# Altium integrated library Maxim Digital Potentiometers.IntLib: 1045 symbols (part 29 of 42)
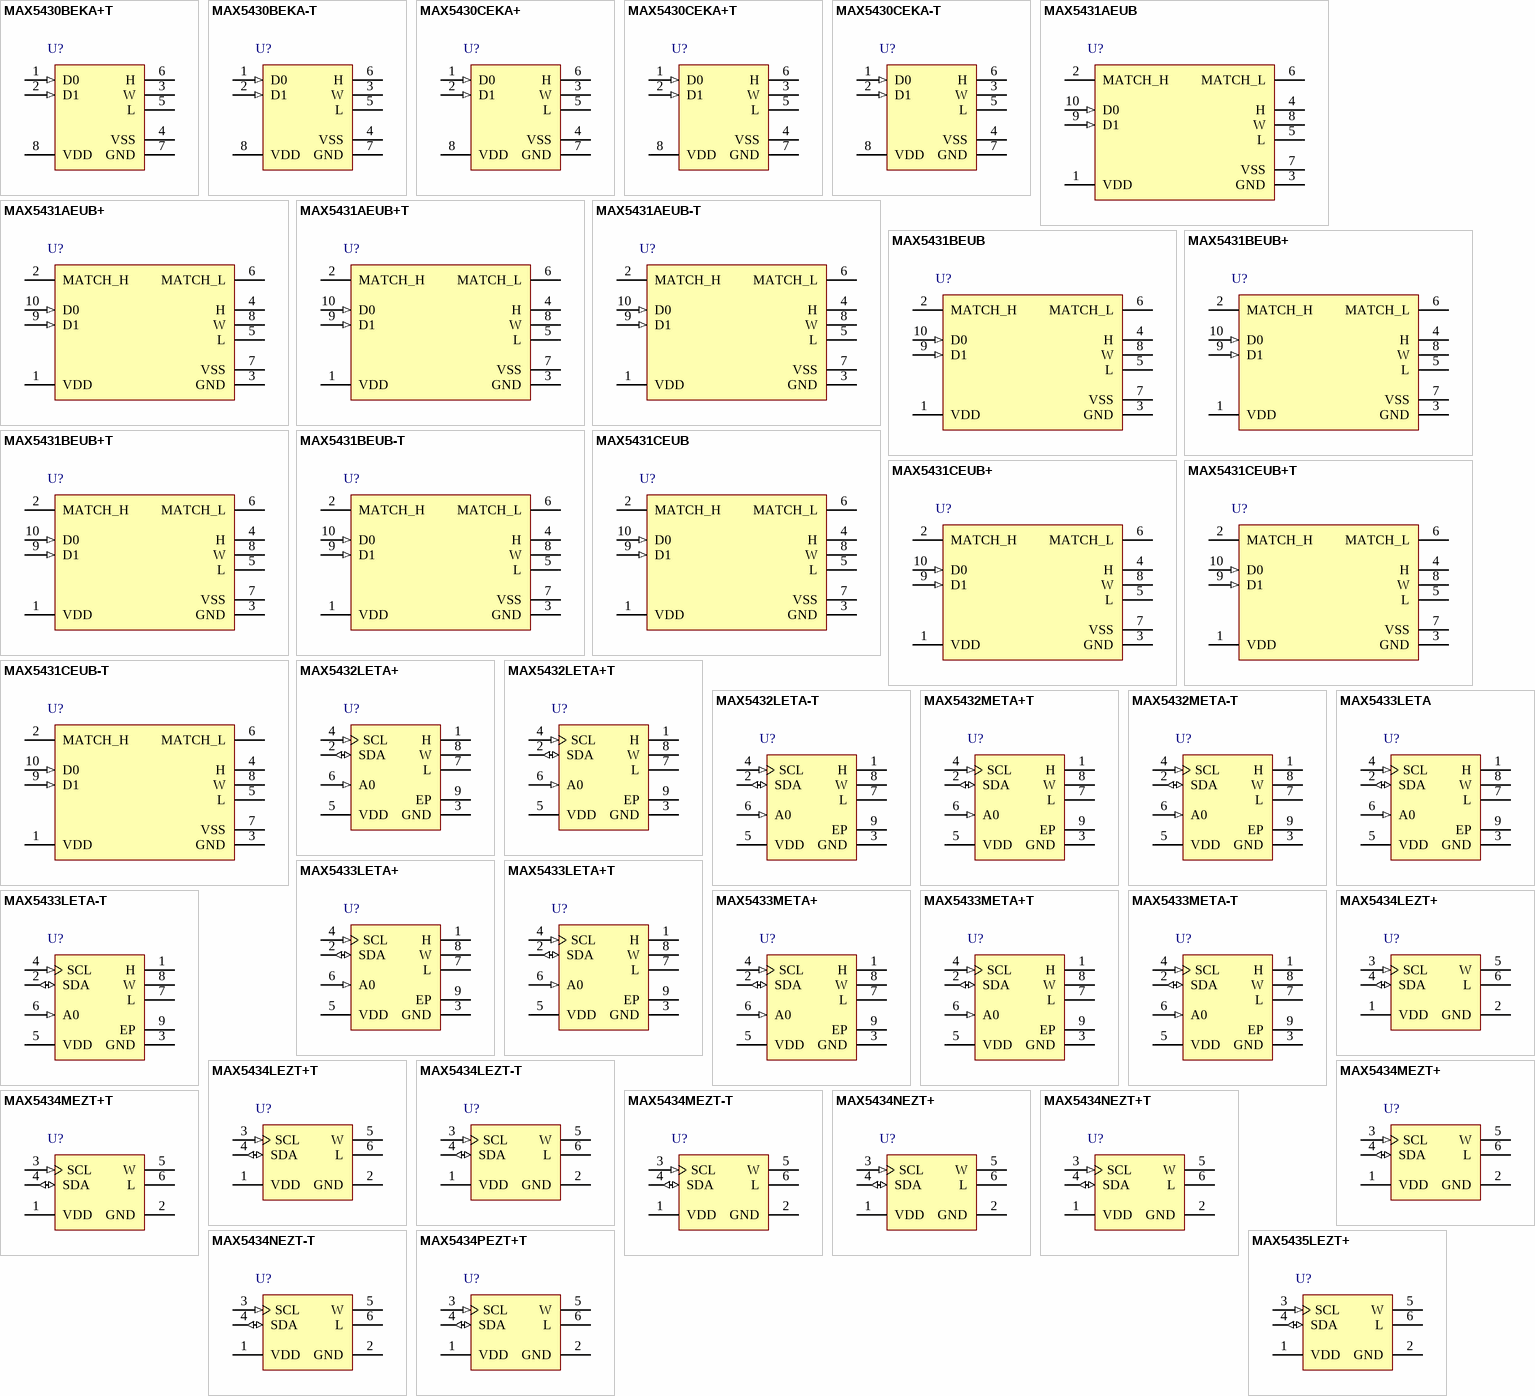
[diagram p57: symbols MAX5430BEKA+T to MAX5435LEZT+]

## MAX5435LEZT+
designator U?
I2C, Digital Potentiometers, 100kohm Variable Resistor with 2-Wire Serial Control Interface, Non-Volatile, Linear Taper, 32 Steps, -40 to 85 degC, 6-pin TSOT (Z6+1), Pb-Free; PartNumber: MAX5435LEZT+; DatasheetVersion: Rev. 3; PackageVersion: Rev. D, 05/2011; PackageReference: Z6+1; PackageDescription: 6-Pin Thin Small-Outline Transistor (Z6+1), Body 2.9 x 1.6 mm, Pitch 0.95 mm; Supplier 1: Mouser; Supplier Part Number 1: N/A; Control Interface: 2-Wire Serial; Features: EEPROM Wiper Memory; Mounting Technology: Surface Mount; Code_JEDEC: MO-193; ComponentLink1Description: Manufacturer URL; ComponentLink1URL: http://www.maximintegrated.com/; ComponentLink2Description: Datasheet; ComponentLink2URL: http://datasheets.maximintegrated.com/en/ds/MAX5432-MAX5435.pdf; ComponentLink3Description: Package Specification; ComponentLink3URL: http://pdfserv.maximintegrated.com/package_dwgs/21-0114.PDF
footprint MAXM-Z6+1_N (SOT23, 6-Leads, Body 2.9x1.6mm, Pitch 0.95mm, IPC Medium Density)
footprint MAXM-Z6+1_L (SOT23, 6-Leads, Body 2.9x1.6mm, Pitch 0.95mm, IPC High Density)
footprint MAXM-Z6+1_M (SOT23, 6-Leads, Body 2.9x1.6mm, Pitch 0.95mm, IPC Low Density)
pins: 1 VDD (power) "Power-Supply Input. Bypass with a 0.1uF capacitor from VDD to GND", 2 GND (power) "Ground", 3 SCL (in) "I2C-Compatible Interface Clock Input", 4 SDA (io) "I2C-Compatible Interface Data Input", 5 W "Wiper Terminal", 6 L "Low Terminal"

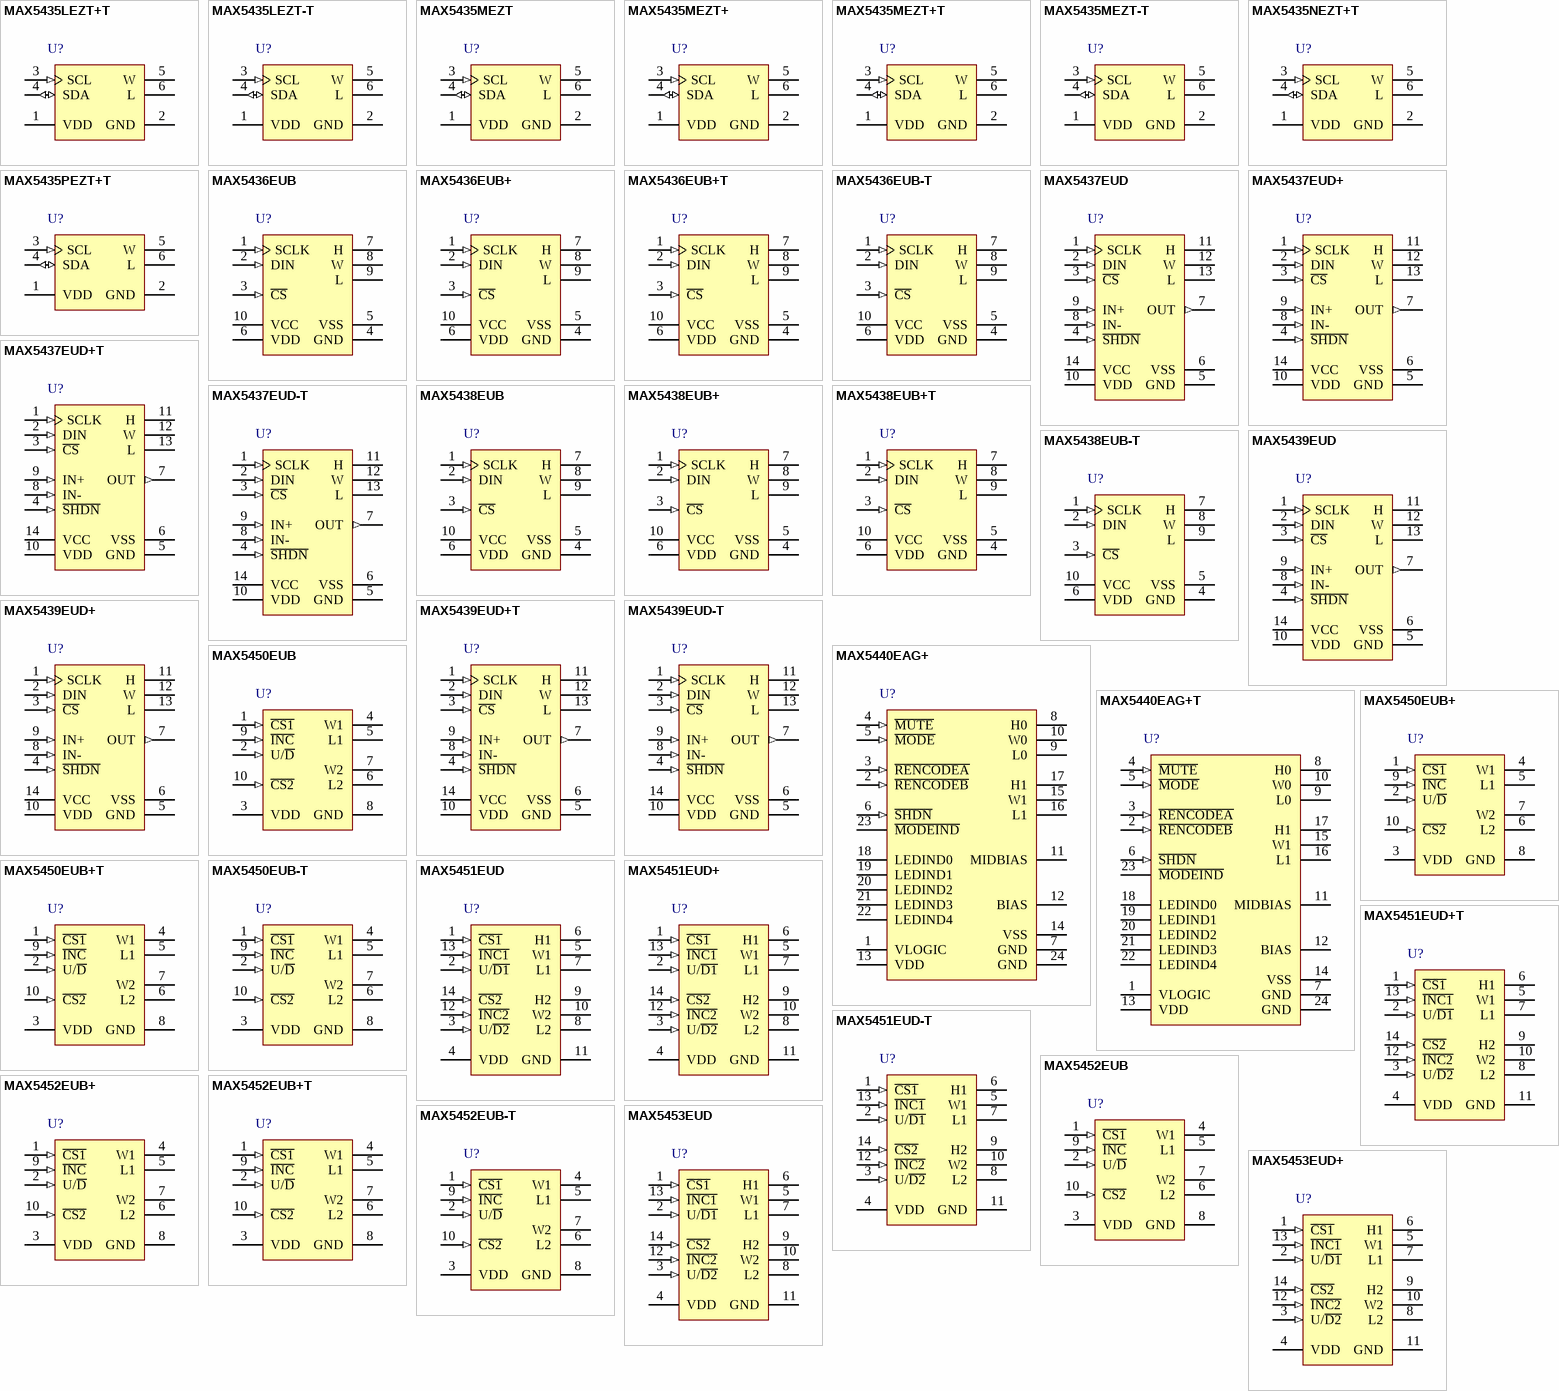
[diagram p20: symbols MAX5435LEZT+T to MAX5453EUD+]

## MAX5435LEZT+T
designator U?
I2C, Digital Potentiometers, 100kohm Variable Resistor with 2-Wire Serial Control Interface, Non-Volatile, Linear Taper, 32 Steps, -40 to 85 degC, 6-pin TSOT (Z6+1), Pb-Free, Tape and Reel; PartNumber: MAX5435LEZT+T; DatasheetVersion: Rev. 3; PackageVersion: Rev. D, 05/2011; PackageReference: Z6+1; PackageDescription: 6-Pin Thin Small-Outline Transistor (Z6+1), Body 2.9 x 1.6 mm, Pitch 0.95 mm; Supplier 1: Digi-Key; Supplier Part Number 1: MAX5435LEZT+T-ND; Supplier 2: Mouser; Supplier Part Number 2: 700-MAX5435LEZTT; Control Interface: 2-Wire Serial; Features: EEPROM Wiper Memory; Mounting Technology: Surface Mount; Code_JEDEC: MO-193; ComponentLink1Description: Manufacturer URL; ComponentLink1URL: http://www.maximintegrated.com/; ComponentLink2Description: Datasheet; ComponentLink2URL: http://datasheets.maximintegrated.com/en/ds/MAX5432-MAX5435.pdf; ComponentLink3Description: Package Specification; ComponentLink3URL: http://pdfserv.maximintegrated.com/package_dwgs/21-0114.PDF
footprint MAXM-Z6+1_N (SOT23, 6-Leads, Body 2.9x1.6mm, Pitch 0.95mm, IPC Medium Density)
footprint MAXM-Z6+1_L (SOT23, 6-Leads, Body 2.9x1.6mm, Pitch 0.95mm, IPC High Density)
footprint MAXM-Z6+1_M (SOT23, 6-Leads, Body 2.9x1.6mm, Pitch 0.95mm, IPC Low Density)
pins: 1 VDD (power) "Power-Supply Input. Bypass with a 0.1uF capacitor from VDD to GND", 2 GND (power) "Ground", 3 SCL (in) "I2C-Compatible Interface Clock Input", 4 SDA (io) "I2C-Compatible Interface Data Input", 5 W "Wiper Terminal", 6 L "Low Terminal"

## MAX5435LEZT-T
designator U?
I2C, Digital Potentiometers, 100kohm Variable Resistor with 2-Wire Serial Control Interface, Non-Volatile, Linear Taper, 32 Steps, -40 to 85 degC, 6-pin TSOT (Z6-1), Tape and Reel; PartNumber: MAX5435LEZT-T; DatasheetVersion: Rev. 3; PackageVersion: Rev. D, 05/2011; PackageReference: Z6-1; PackageDescription: 6-Pin Thin Small-Outline Transistor (Z6-1), Body 2.9 x 1.6 mm, Pitch 0.95 mm; Supplier 1: Mouser; Supplier Part Number 1: N/A; Control Interface: 2-Wire Serial; Features: EEPROM Wiper Memory; Mounting Technology: Surface Mount; Code_JEDEC: MO-193; ComponentLink1Description: Manufacturer URL; ComponentLink1URL: http://www.maximintegrated.com/; ComponentLink2Description: Datasheet; ComponentLink2URL: http://datasheets.maximintegrated.com/en/ds/MAX5432-MAX5435.pdf; ComponentLink3Description: Package Specification; ComponentLink3URL: http://pdfserv.maximintegrated.com/package_dwgs/21-0114.PDF
footprint MAXM-Z6-1_N (SOT23, 6-Leads, Body 2.9x1.6mm, Pitch 0.95mm, IPC Medium Density)
footprint MAXM-Z6-1_L (SOT23, 6-Leads, Body 2.9x1.6mm, Pitch 0.95mm, IPC High Density)
footprint MAXM-Z6-1_M (SOT23, 6-Leads, Body 2.9x1.6mm, Pitch 0.95mm, IPC Low Density)
pins: 1 VDD (power) "Power-Supply Input. Bypass with a 0.1uF capacitor from VDD to GND", 2 GND (power) "Ground", 3 SCL (in) "I2C-Compatible Interface Clock Input", 4 SDA (io) "I2C-Compatible Interface Data Input", 5 W "Wiper Terminal", 6 L "Low Terminal"

## MAX5435MEZT
designator U?
Digital Potentiometers, 100k ohm Variable Resistor with 2-Wire Serial Control Interface, Non-Volatile, Linear Taper, 32 Steps, -40 to 85 degC, 6-pin TSOT (Z6-1); PartNumber: MAX5435MEZT; DatasheetVersion: Rev. 3; PackageVersion: Rev. D, 05/2011; PackageReference: Z6-1; PackageDescription: 6-Pin Thin Small-Outline Transistor (Z6-1), Body 2.9 x 1.6 mm, Pitch 0.95 mm; Supplier 1: Mouser; Supplier Part Number 1: N/A; Control Interface: 2-Wire Serial; Features: EEPROM Wiper Memory; Mounting Technology: Surface Mount; Code_JEDEC: MO-193; ComponentLink1Description: Manufacturer URL; ComponentLink1URL: http://www.maximintegrated.com/; ComponentLink2Description: Datasheet; ComponentLink2URL: http://datasheets.maximintegrated.com/en/ds/MAX5432-MAX5435.pdf; ComponentLink3Description: Package Specification; ComponentLink3URL: http://pdfserv.maximintegrated.com/package_dwgs/21-0114.PDF
footprint MAXM-Z6-1_N (SOT23, 6-Leads, Body 2.9x1.6mm, Pitch 0.95mm, IPC Medium Density)
footprint MAXM-Z6-1_L (SOT23, 6-Leads, Body 2.9x1.6mm, Pitch 0.95mm, IPC High Density)
footprint MAXM-Z6-1_M (SOT23, 6-Leads, Body 2.9x1.6mm, Pitch 0.95mm, IPC Low Density)
pins: 1 VDD (power) "Power-Supply Input. Bypass with a 0.1uF capacitor from VDD to GND", 2 GND (power) "Ground", 3 SCL (in) "I2C-Compatible Interface Clock Input", 4 SDA (io) "I2C-Compatible Interface Data Input", 5 W "Wiper Terminal", 6 L "Low Terminal"

## MAX5435MEZT+
designator U?
Digital Potentiometers, 100k ohm Variable Resistor with 2-Wire Serial Control Interface, Non-Volatile, Linear Taper, 32 Steps, -40 to 85 degC, 6-pin TSOT (Z6+1), Pb-Free; PartNumber: MAX5435MEZT+; DatasheetVersion: Rev. 3; PackageVersion: Rev. D, 05/2011; PackageReference: Z6+1; PackageDescription: 6-Pin Thin Small-Outline Transistor (Z6+1), Body 2.9 x 1.6 mm, Pitch 0.95 mm; Supplier 1: Mouser; Supplier Part Number 1: N/A; Control Interface: 2-Wire Serial; Features: EEPROM Wiper Memory; Mounting Technology: Surface Mount; Code_JEDEC: MO-193; ComponentLink1Description: Manufacturer URL; ComponentLink1URL: http://www.maximintegrated.com/; ComponentLink2Description: Datasheet; ComponentLink2URL: http://datasheets.maximintegrated.com/en/ds/MAX5432-MAX5435.pdf; ComponentLink3Description: Package Specification; ComponentLink3URL: http://pdfserv.maximintegrated.com/package_dwgs/21-0114.PDF
footprint MAXM-Z6+1_N (SOT23, 6-Leads, Body 2.9x1.6mm, Pitch 0.95mm, IPC Medium Density)
footprint MAXM-Z6+1_L (SOT23, 6-Leads, Body 2.9x1.6mm, Pitch 0.95mm, IPC High Density)
footprint MAXM-Z6+1_M (SOT23, 6-Leads, Body 2.9x1.6mm, Pitch 0.95mm, IPC Low Density)
pins: 1 VDD (power) "Power-Supply Input. Bypass with a 0.1uF capacitor from VDD to GND", 2 GND (power) "Ground", 3 SCL (in) "I2C-Compatible Interface Clock Input", 4 SDA (io) "I2C-Compatible Interface Data Input", 5 W "Wiper Terminal", 6 L "Low Terminal"

## MAX5435MEZT+T
designator U?
Digital Potentiometers, 100k ohm Variable Resistor with 2-Wire Serial Control Interface, Non-Volatile, Linear Taper, 32 Steps, -40 to 85 degC, 6-pin TSOT (Z6+1), Pb-Free, Tape and Reel; PartNumber: MAX5435MEZT+T; DatasheetVersion: Rev. 3; PackageVersion: Rev. D, 05/2011; PackageReference: Z6+1; PackageDescription: 6-Pin Thin Small-Outline Transistor (Z6+1), Body 2.9 x 1.6 mm, Pitch 0.95 mm; Supplier 1: Digi-Key; Supplier Part Number 1: MAX5435MEZT+TTR-ND; Supplier 2: Digi-Key; Supplier Part Number 2: MAX5435MEZT+TCT-ND; Supplier 3: Digi-Key; Supplier Part Number 3: MAX5435MEZT+TDKR-ND; Supplier 4: Mouser; Supplier Part Number 4: 700-MAX5435MEZTT; Control Interface: 2-Wire Serial; Features: EEPROM Wiper Memory; Mounting Technology: Surface Mount; Code_JEDEC: MO-193; ComponentLink1Description: Manufacturer URL; ComponentLink1URL: http://www.maximintegrated.com/; ComponentLink2Description: Datasheet; ComponentLink2URL: http://datasheets.maximintegrated.com/en/ds/MAX5432-MAX5435.pdf; ComponentLink3Description: Package Specification; ComponentLink3URL: http://pdfserv.maximintegrated.com/package_dwgs/21-0114.PDF
footprint MAXM-Z6+1_N (SOT23, 6-Leads, Body 2.9x1.6mm, Pitch 0.95mm, IPC Medium Density)
footprint MAXM-Z6+1_L (SOT23, 6-Leads, Body 2.9x1.6mm, Pitch 0.95mm, IPC High Density)
footprint MAXM-Z6+1_M (SOT23, 6-Leads, Body 2.9x1.6mm, Pitch 0.95mm, IPC Low Density)
pins: 1 VDD (power) "Power-Supply Input. Bypass with a 0.1uF capacitor from VDD to GND", 2 GND (power) "Ground", 3 SCL (in) "I2C-Compatible Interface Clock Input", 4 SDA (io) "I2C-Compatible Interface Data Input", 5 W "Wiper Terminal", 6 L "Low Terminal"

## MAX5435MEZT-T
designator U?
Digital Potentiometers, 100k ohm Variable Resistor with 2-Wire Serial Control Interface, Non-Volatile, Linear Taper, 32 Steps, -40 to 85 degC, 6-pin TSOT (Z6-1), Tape and Reel; PartNumber: MAX5435MEZT-T; DatasheetVersion: Rev. 3; PackageVersion: Rev. D, 05/2011; PackageReference: Z6-1; PackageDescription: 6-Pin Thin Small-Outline Transistor (Z6-1), Body 2.9 x 1.6 mm, Pitch 0.95 mm; Supplier 1: Mouser; Supplier Part Number 1: N/A; Control Interface: 2-Wire Serial; Features: EEPROM Wiper Memory; Mounting Technology: Surface Mount; Code_JEDEC: MO-193; ComponentLink1Description: Manufacturer URL; ComponentLink1URL: http://www.maximintegrated.com/; ComponentLink2Description: Datasheet; ComponentLink2URL: http://datasheets.maximintegrated.com/en/ds/MAX5432-MAX5435.pdf; ComponentLink3Description: Package Specification; ComponentLink3URL: http://pdfserv.maximintegrated.com/package_dwgs/21-0114.PDF
footprint MAXM-Z6-1_N (SOT23, 6-Leads, Body 2.9x1.6mm, Pitch 0.95mm, IPC Medium Density)
footprint MAXM-Z6-1_L (SOT23, 6-Leads, Body 2.9x1.6mm, Pitch 0.95mm, IPC High Density)
footprint MAXM-Z6-1_M (SOT23, 6-Leads, Body 2.9x1.6mm, Pitch 0.95mm, IPC Low Density)
pins: 1 VDD (power) "Power-Supply Input. Bypass with a 0.1uF capacitor from VDD to GND", 2 GND (power) "Ground", 3 SCL (in) "I2C-Compatible Interface Clock Input", 4 SDA (io) "I2C-Compatible Interface Data Input", 5 W "Wiper Terminal", 6 L "Low Terminal"

## MAX5435NEZT+T
designator U?
Digital Potentiometers, 100k ohm Variable Resistor with 2-Wire Serial Control Interface, Non-Volatile, Linear Taper, 32 Steps, -40 to 85 degC, 6-pin TSOT (Z6+1), Pb-Free, Tape and Reel; PartNumber: MAX5435NEZT+T; DatasheetVersion: Rev. 3; PackageVersion: Rev. D, 05/2011; PackageReference: Z6+1; PackageDescription: 6-Pin Thin Small-Outline Transistor (Z6+1), Body 2.9 x 1.6 mm, Pitch 0.95 mm; Supplier 1: Digi-Key; Supplier Part Number 1: MAX5435NEZT+T-ND; Supplier 2: Mouser; Supplier Part Number 2: 700-MAX5435NEZT+T; Control Interface: 2-Wire Serial; Features: EEPROM Wiper Memory; Mounting Technology: Surface Mount; Code_JEDEC: MO-193; ComponentLink1Description: Manufacturer URL; ComponentLink1URL: http://www.maximintegrated.com/; ComponentLink2Description: Datasheet; ComponentLink2URL: http://datasheets.maximintegrated.com/en/ds/MAX5432-MAX5435.pdf; ComponentLink3Description: Package Specification; ComponentLink3URL: http://pdfserv.maximintegrated.com/package_dwgs/21-0114.PDF
footprint MAXM-Z6+1_N (SOT23, 6-Leads, Body 2.9x1.6mm, Pitch 0.95mm, IPC Medium Density)
footprint MAXM-Z6+1_L (SOT23, 6-Leads, Body 2.9x1.6mm, Pitch 0.95mm, IPC High Density)
footprint MAXM-Z6+1_M (SOT23, 6-Leads, Body 2.9x1.6mm, Pitch 0.95mm, IPC Low Density)
pins: 1 VDD (power) "Power-Supply Input. Bypass with a 0.1uF capacitor from VDD to GND", 2 GND (power) "Ground", 3 SCL (in) "I2C-Compatible Interface Clock Input", 4 SDA (io) "I2C-Compatible Interface Data Input", 5 W "Wiper Terminal", 6 L "Low Terminal"

## MAX5435PEZT+T
designator U?
Digital Potentiometers, 100 kohm Variable Resistor with 2-Wire Serial Control Interface, Non-Volatile, Linear Taper, 32 Steps, -40 to 85 degC, 6-pin TSOT (Z6+1), Pb-Free, Tape and Reel; PartNumber: MAX5435PEZT+T; DatasheetVersion: Rev. 3; PackageVersion: Rev. D, 05/2011; PackageReference: Z6+1; PackageDescription: 6-Pin Thin Small-Outline Transistor (Z6+1), Body 2.9 x 1.6 mm, Pitch 0.95 mm; Supplier 1: Digi-Key; Supplier Part Number 1: MAX5435PEZT+T-ND; Supplier 2: Mouser; Supplier Part Number 2: 700-MAX5435PEZT+T; Control Interface: 2-Wire Serial; Features: EEPROM Wiper Memory; Mounting Technology: Surface Mount; Code_JEDEC: MO-193; ComponentLink1Description: Manufacturer URL; ComponentLink1URL: http://www.maximintegrated.com/; ComponentLink2Description: Datasheet; ComponentLink2URL: http://datasheets.maximintegrated.com/en/ds/MAX5432-MAX5435.pdf; ComponentLink3Description: Package Specification; ComponentLink3URL: http://pdfserv.maximintegrated.com/package_dwgs/21-0114.PDF
footprint MAXM-Z6+1_N (SOT23, 6-Leads, Body 2.9x1.6mm, Pitch 0.95mm, IPC Medium Density)
footprint MAXM-Z6+1_L (SOT23, 6-Leads, Body 2.9x1.6mm, Pitch 0.95mm, IPC High Density)
footprint MAXM-Z6+1_M (SOT23, 6-Leads, Body 2.9x1.6mm, Pitch 0.95mm, IPC Low Density)
pins: 1 VDD (power) "Power-Supply Input. Bypass with a 0.1uF capacitor from VDD to GND", 2 GND (power) "Ground", 3 SCL (in) "I2C-Compatible Interface Clock Input", 4 SDA (io) "I2C-Compatible Interface Data Input", 5 W "Wiper Terminal", 6 L "Low Terminal"

## MAX5436EUB
designator U?
High Voltage +/-15V, Low-Drift Digital Potentiometers with 3-Wire Serial SPI Control Interface, Volatile, Linear Taper, 128 Steps, -40 to 85 degC, 10-pin uMAX (U10CN-1); PartNumber: MAX5436EUB; DatasheetVersion: Rev. 3; PackageVersion: Rev. L, 07/2008; PackageReference: U10CN-1; PackageDescription: 10-Pin Micro-MAX, Thin Shrink Small-Outline (U10CN-1), Body 3 x 3 mm, Pitch 0.5 mm; Supplier 1: Mouser; Supplier Part Number 1: N/A; Control Interface: 3-Wire Serial SPI; Mounting Technology: Surface Mount; Code_JEDEC: MO-187; ComponentLink1Description: Manufacturer URL; ComponentLink1URL: http://www.maximintegrated.com/; ComponentLink2Description: Datasheet; ComponentLink2URL: http://datasheets.maximintegrated.com/en/ds/MAX5436-MAX5439.pdf; ComponentLink3Description: Package Specification; ComponentLink3URL: http://pdfserv.maximintegrated.com/package_dwgs/21-0061.PDF
footprint MAXM-U10CN-1_N (SOP, 10-Leads, Body 3x3mm, Pitch 0.5mm, IPC Medium Density)
footprint MAXM-U10CN-1_L (SOP, 10-Leads, Body 3x3mm, Pitch 0.5mm, IPC High Density)
footprint MAXM-U10CN-1_M (SOP, 10-Leads, Body 3x3mm, Pitch 0.5mm, IPC Low Density)
pins: 1 SCLK (in) "Serial Clock Input", 2 DIN (in) "Serial Data Input", 3 ~{CS} (in) "Chip Select", 4 GND (power) "Analog and Digital Ground", 5 VSS (power) "Negative Analog Supply. Bypass with a 0.1uF capacitor to GND.", 6 VDD (power) "Positive Analog Supply. Bypass with a 0.1uF capacitor to GND.", 7 H "High Terminal of Resistor", 8 W "Wiper Terminal of Resistor", 9 L "Low Terminal of Resistor", 10 VCC (power) "Digital Supply. Bypass with a 0.1uF capacitor to GND."

## MAX5436EUB+
designator U?
High Voltage +/-15V, Low-Drift Digital Potentiometers with 3-Wire Serial SPI Control Interface, Volatile, Linear Taper, 128 Steps, -40 to 85 degC, 10-pin uMAX (U10CN+1), Pb-Free; PartNumber: MAX5436EUB+; DatasheetVersion: Rev. 3; PackageVersion: Rev. L, 07/2008; PackageReference: U10CN+1; PackageDescription: 10-Pin Micro-MAX, Thin Shrink Small-Outline (U10CN+1), Body 3 x 3 mm, Pitch 0.5 mm; Supplier 1: Digi-Key; Supplier Part Number 1: MAX5436EUB+-ND; Supplier 2: Farnell; Supplier Part Number 2: 2008637; Supplier 3: Newark; Supplier Part Number 3: 33K2128; Supplier 4: Mouser; Supplier Part Number 4: 700-MAX5436EUB; Control Interface: 3-Wire Serial SPI; Mounting Technology: Surface Mount; Code_JEDEC: MO-187; ComponentLink1Description: Manufacturer URL; ComponentLink1URL: http://www.maximintegrated.com/; ComponentLink2Description: Datasheet; ComponentLink2URL: http://datasheets.maximintegrated.com/en/ds/MAX5436-MAX5439.pdf; ComponentLink3Description: Package Specification; ComponentLink3URL: http://pdfserv.maximintegrated.com/package_dwgs/21-0061.PDF
footprint MAXM-U10CN+1_N (SOP, 10-Leads, Body 3x3mm, Pitch 0.5mm, IPC Medium Density)
footprint MAXM-U10CN+1_L (SOP, 10-Leads, Body 3x3mm, Pitch 0.5mm, IPC High Density)
footprint MAXM-U10CN+1_M (SOP, 10-Leads, Body 3x3mm, Pitch 0.5mm, IPC Low Density)
pins: 1 SCLK (in) "Serial Clock Input", 2 DIN (in) "Serial Data Input", 3 ~{CS} (in) "Chip Select", 4 GND (power) "Analog and Digital Ground", 5 VSS (power) "Negative Analog Supply. Bypass with a 0.1uF capacitor to GND.", 6 VDD (power) "Positive Analog Supply. Bypass with a 0.1uF capacitor to GND.", 7 H "High Terminal of Resistor", 8 W "Wiper Terminal of Resistor", 9 L "Low Terminal of Resistor", 10 VCC (power) "Digital Supply. Bypass with a 0.1uF capacitor to GND."

## MAX5436EUB+T
designator U?
High Voltage +/-15V, Low-Drift Digital Potentiometers with 3-Wire Serial SPI Control Interface, Volatile, Linear Taper, 128 Steps, -40 to 85 degC, 10-pin uMAX (U10CN+1), Pb-Free, Tape and Reel; PartNumber: MAX5436EUB+T; DatasheetVersion: Rev. 3; PackageVersion: Rev. L, 07/2008; PackageReference: U10CN+1; PackageDescription: 10-Pin Micro-MAX, Thin Shrink Small-Outline (U10CN+1), Body 3 x 3 mm, Pitch 0.5 mm; Supplier 1: Digi-Key; Supplier Part Number 1: MAX5436EUB+T-ND; Supplier 2: Mouser; Supplier Part Number 2: 700-MAX5436EUBT; Control Interface: 3-Wire Serial SPI; Mounting Technology: Surface Mount; Code_JEDEC: MO-187; ComponentLink1Description: Manufacturer URL; ComponentLink1URL: http://www.maximintegrated.com/; ComponentLink2Description: Datasheet; ComponentLink2URL: http://datasheets.maximintegrated.com/en/ds/MAX5436-MAX5439.pdf; ComponentLink3Description: Package Specification; ComponentLink3URL: http://pdfserv.maximintegrated.com/package_dwgs/21-0061.PDF
footprint MAXM-U10CN+1_N (SOP, 10-Leads, Body 3x3mm, Pitch 0.5mm, IPC Medium Density)
footprint MAXM-U10CN+1_L (SOP, 10-Leads, Body 3x3mm, Pitch 0.5mm, IPC High Density)
footprint MAXM-U10CN+1_M (SOP, 10-Leads, Body 3x3mm, Pitch 0.5mm, IPC Low Density)
pins: 1 SCLK (in) "Serial Clock Input", 2 DIN (in) "Serial Data Input", 3 ~{CS} (in) "Chip Select", 4 GND (power) "Analog and Digital Ground", 5 VSS (power) "Negative Analog Supply. Bypass with a 0.1uF capacitor to GND.", 6 VDD (power) "Positive Analog Supply. Bypass with a 0.1uF capacitor to GND.", 7 H "High Terminal of Resistor", 8 W "Wiper Terminal of Resistor", 9 L "Low Terminal of Resistor", 10 VCC (power) "Digital Supply. Bypass with a 0.1uF capacitor to GND."

## MAX5436EUB-T
designator U?
High Voltage +/-15V, Low-Drift Digital Potentiometers with 3-Wire Serial SPI Control Interface, Volatile, Linear Taper, 128 Steps, -40 to 85 degC, 10-pin uMAX (U10CN-1), Tape and Reel; PartNumber: MAX5436EUB-T; DatasheetVersion: Rev. 3; PackageVersion: Rev. L, 07/2008; PackageReference: U10CN-1; PackageDescription: 10-Pin Micro-MAX, Thin Shrink Small-Outline (U10CN-1), Body 3 x 3 mm, Pitch 0.5 mm; Supplier 1: Mouser; Supplier Part Number 1: N/A; Control Interface: 3-Wire Serial SPI; Mounting Technology: Surface Mount; Code_JEDEC: MO-187; ComponentLink1Description: Manufacturer URL; ComponentLink1URL: http://www.maximintegrated.com/; ComponentLink2Description: Datasheet; ComponentLink2URL: http://datasheets.maximintegrated.com/en/ds/MAX5436-MAX5439.pdf; ComponentLink3Description: Package Specification; ComponentLink3URL: http://pdfserv.maximintegrated.com/package_dwgs/21-0061.PDF
footprint MAXM-U10CN-1_N (SOP, 10-Leads, Body 3x3mm, Pitch 0.5mm, IPC Medium Density)
footprint MAXM-U10CN-1_L (SOP, 10-Leads, Body 3x3mm, Pitch 0.5mm, IPC High Density)
footprint MAXM-U10CN-1_M (SOP, 10-Leads, Body 3x3mm, Pitch 0.5mm, IPC Low Density)
pins: 1 SCLK (in) "Serial Clock Input", 2 DIN (in) "Serial Data Input", 3 ~{CS} (in) "Chip Select", 4 GND (power) "Analog and Digital Ground", 5 VSS (power) "Negative Analog Supply. Bypass with a 0.1uF capacitor to GND.", 6 VDD (power) "Positive Analog Supply. Bypass with a 0.1uF capacitor to GND.", 7 H "High Terminal of Resistor", 8 W "Wiper Terminal of Resistor", 9 L "Low Terminal of Resistor", 10 VCC (power) "Digital Supply. Bypass with a 0.1uF capacitor to GND."

## MAX5437EUD
designator U?
High Voltage +/-15V, Low-Drift Digital Potentiometers w/Uncommitted Op-Amp with 3-Wire Serial SPI Control Interface, Volatile, Linear Taper, 128 Steps, -40 to 85 degC, 14-pin TSSOP (U14-1); PartNumber: MAX5437EUD; DatasheetVersion: Rev. 3; PackageVersion: Rev. L, 07/2010; PackageReference: U14-1; PackageDescription: 14-Pin Thin Shrink Small-Outline Package (U14-1), Body 5 x 4.4 mm, Pitch 0.65 mm; Supplier 1: Mouser; Supplier Part Number 1: N/A; Control Interface: 3-Wire Serial SPI; Features: On-Chip Uncommitted Op Amp; Mounting Technology: Surface Mount; Code_JEDEC: MO-153; ComponentLink1Description: Manufacturer URL; ComponentLink1URL: http://www.maximintegrated.com/; ComponentLink2Description: Datasheet; ComponentLink2URL: http://datasheets.maximintegrated.com/en/ds/MAX5436-MAX5439.pdf; ComponentLink3Description: Package Specification; ComponentLink3URL: http://pdfserv.maximintegrated.com/package_dwgs/21-0066.PDF
footprint MAXM-U14-1_N (SOP, 14-Leads, Body 5x4.4mm, Pitch 0.65mm, IPC Medium Density)
footprint MAXM-U14-1_L (SOP, 14-Leads, Body 5x4.4mm, Pitch 0.65mm, IPC High Density)
footprint MAXM-U14-1_M (SOP, 14-Leads, Body 5x4.4mm, Pitch 0.65mm, IPC Low Density)
pins: 1 SCLK (in) "Serial Clock Input", 2 DIN (in) "Serial Data Input", 3 ~{CS} (in) "Chip Select", 4 ~{SHDN} (in) "Amplifier Shutdown", 5 GND (power) "Analog and Digital Ground", 6 VSS (power) "Negative Analog Supply. Bypass with a 0.1uF capacitor to GND.", 7 OUT (out) "Amplifier Output", 8 IN- (in) "Amplifier Negative Input", 9 IN+ (in) "Amplifier Positive Input", 10 VDD (power) "Positive Analog Supply. Bypass with a 0.1uF capacitor to GND.", 11 H "High Terminal of Resistor", 12 W "Wiper Terminal of Resistor", 13 L "Low Terminal of Resistor", 14 VCC (power) "Digital Supply. Bypass with a 0.1uF capacitor to GND."

## MAX5437EUD+
designator U?
High Voltage +/-15V, Low-Drift Digital Potentiometers w/Uncommitted Op-Amp with 3-Wire Serial SPI Control Interface, Volatile, Linear Taper, 128 Steps, -40 to 85 degC, 14-pin TSSOP (U14+1), Pb-Free; PartNumber: MAX5437EUD+; DatasheetVersion: Rev. 3; PackageVersion: Rev. L, 07/2010; PackageReference: U14+1; PackageDescription: 14-Pin Thin Shrink Small-Outline Package (U14+1), Body 5 x 4.4 mm, Pitch 0.65 mm; Supplier 1: Digi-Key; Supplier Part Number 1: MAX5437EUD+-ND; Supplier 2: Mouser; Supplier Part Number 2: 700-MAX5437EUD; Control Interface: 3-Wire Serial SPI; Features: On-Chip Uncommitted Op Amp; Mounting Technology: Surface Mount; Code_JEDEC: MO-153; ComponentLink1Description: Manufacturer URL; ComponentLink1URL: http://www.maximintegrated.com/; ComponentLink2Description: Datasheet; ComponentLink2URL: http://datasheets.maximintegrated.com/en/ds/MAX5436-MAX5439.pdf; ComponentLink3Description: Package Specification; ComponentLink3URL: http://pdfserv.maximintegrated.com/package_dwgs/21-0066.PDF
footprint MAXM-U14+1_N (SOP, 14-Leads, Body 5x4.4mm, Pitch 0.65mm, IPC Medium Density)
footprint MAXM-U14+1_L (SOP, 14-Leads, Body 5x4.4mm, Pitch 0.65mm, IPC High Density)
footprint MAXM-U14+1_M (SOP, 14-Leads, Body 5x4.4mm, Pitch 0.65mm, IPC Low Density)
pins: 1 SCLK (in) "Serial Clock Input", 2 DIN (in) "Serial Data Input", 3 ~{CS} (in) "Chip Select", 4 ~{SHDN} (in) "Amplifier Shutdown", 5 GND (power) "Analog and Digital Ground", 6 VSS (power) "Negative Analog Supply. Bypass with a 0.1uF capacitor to GND.", 7 OUT (out) "Amplifier Output", 8 IN- (in) "Amplifier Negative Input", 9 IN+ (in) "Amplifier Positive Input", 10 VDD (power) "Positive Analog Supply. Bypass with a 0.1uF capacitor to GND.", 11 H "High Terminal of Resistor", 12 W "Wiper Terminal of Resistor", 13 L "Low Terminal of Resistor", 14 VCC (power) "Digital Supply. Bypass with a 0.1uF capacitor to GND."

## MAX5437EUD+T
designator U?
High Voltage +/-15V, Low-Drift Digital Potentiometers w/Uncommitted Op-Amp with 3-Wire Serial SPI Control Interface, Volatile, Linear Taper, 128 Steps, -40 to 85 degC, 14-pin TSSOP (U14+1), Pb-Free, Tape and Reel; PartNumber: MAX5437EUD+T; DatasheetVersion: Rev. 3; PackageVersion: Rev. L, 07/2010; PackageReference: U14+1; PackageDescription: 14-Pin Thin Shrink Small-Outline Package (U14+1), Body 5 x 4.4 mm, Pitch 0.65 mm; Supplier 1: Digi-Key; Supplier Part Number 1: MAX5437EUD+T-ND; Supplier 2: Mouser; Supplier Part Number 2: 700-MAX5437EUDT; Control Interface: 3-Wire Serial SPI; Features: On-Chip Uncommitted Op Amp; Mounting Technology: Surface Mount; Code_JEDEC: MO-153; ComponentLink1Description: Manufacturer URL; ComponentLink1URL: http://www.maximintegrated.com/; ComponentLink2Description: Datasheet; ComponentLink2URL: http://datasheets.maximintegrated.com/en/ds/MAX5436-MAX5439.pdf; ComponentLink3Description: Package Specification; ComponentLink3URL: http://pdfserv.maximintegrated.com/package_dwgs/21-0066.PDF
footprint MAXM-U14+1_N (SOP, 14-Leads, Body 5x4.4mm, Pitch 0.65mm, IPC Medium Density)
footprint MAXM-U14+1_L (SOP, 14-Leads, Body 5x4.4mm, Pitch 0.65mm, IPC High Density)
footprint MAXM-U14+1_M (SOP, 14-Leads, Body 5x4.4mm, Pitch 0.65mm, IPC Low Density)
pins: 1 SCLK (in) "Serial Clock Input", 2 DIN (in) "Serial Data Input", 3 ~{CS} (in) "Chip Select", 4 ~{SHDN} (in) "Amplifier Shutdown", 5 GND (power) "Analog and Digital Ground", 6 VSS (power) "Negative Analog Supply. Bypass with a 0.1uF capacitor to GND.", 7 OUT (out) "Amplifier Output", 8 IN- (in) "Amplifier Negative Input", 9 IN+ (in) "Amplifier Positive Input", 10 VDD (power) "Positive Analog Supply. Bypass with a 0.1uF capacitor to GND.", 11 H "High Terminal of Resistor", 12 W "Wiper Terminal of Resistor", 13 L "Low Terminal of Resistor", 14 VCC (power) "Digital Supply. Bypass with a 0.1uF capacitor to GND."

## MAX5437EUD-T
designator U?
High Voltage +/-15V, Low-Drift Digital Potentiometers w/Uncommitted Op-Amp with 3-Wire Serial SPI Control Interface, Volatile, Linear Taper, 128 Steps, -40 to 85 degC, 14-pin TSSOP (U14-1), Tape and Reel; PartNumber: MAX5437EUD-T; DatasheetVersion: Rev. 3; PackageVersion: Rev. L, 07/2010; PackageReference: U14-1; PackageDescription: 14-Pin Thin Shrink Small-Outline Package (U14-1), Body 5 x 4.4 mm, Pitch 0.65 mm; Supplier 1: Mouser; Supplier Part Number 1: N/A; Control Interface: 3-Wire Serial SPI; Features: On-Chip Uncommitted Op Amp; Mounting Technology: Surface Mount; Code_JEDEC: MO-153; ComponentLink1Description: Manufacturer URL; ComponentLink1URL: http://www.maximintegrated.com/; ComponentLink2Description: Datasheet; ComponentLink2URL: http://datasheets.maximintegrated.com/en/ds/MAX5436-MAX5439.pdf; ComponentLink3Description: Package Specification; ComponentLink3URL: http://pdfserv.maximintegrated.com/package_dwgs/21-0066.PDF
footprint MAXM-U14-1_N (SOP, 14-Leads, Body 5x4.4mm, Pitch 0.65mm, IPC Medium Density)
footprint MAXM-U14-1_L (SOP, 14-Leads, Body 5x4.4mm, Pitch 0.65mm, IPC High Density)
footprint MAXM-U14-1_M (SOP, 14-Leads, Body 5x4.4mm, Pitch 0.65mm, IPC Low Density)
pins: 1 SCLK (in) "Serial Clock Input", 2 DIN (in) "Serial Data Input", 3 ~{CS} (in) "Chip Select", 4 ~{SHDN} (in) "Amplifier Shutdown", 5 GND (power) "Analog and Digital Ground", 6 VSS (power) "Negative Analog Supply. Bypass with a 0.1uF capacitor to GND.", 7 OUT (out) "Amplifier Output", 8 IN- (in) "Amplifier Negative Input", 9 IN+ (in) "Amplifier Positive Input", 10 VDD (power) "Positive Analog Supply. Bypass with a 0.1uF capacitor to GND.", 11 H "High Terminal of Resistor", 12 W "Wiper Terminal of Resistor", 13 L "Low Terminal of Resistor", 14 VCC (power) "Digital Supply. Bypass with a 0.1uF capacitor to GND."

## MAX5438EUB
designator U?
High Voltage +/-15V, Low-Drift Digital Potentiometers with 3-Wire Serial SPI Control Interface, Volatile, Linear Taper, 128 Steps, -40 to 85 degC, 10-pin uMAX (U10CN-1); PartNumber: MAX5438EUB; DatasheetVersion: Rev. 3; PackageVersion: Rev. L, 07/2008; PackageReference: U10CN-1; PackageDescription: 10-Pin Micro-MAX, Thin Shrink Small-Outline (U10CN-1), Body 3 x 3 mm, Pitch 0.5 mm; Supplier 1: Mouser; Supplier Part Number 1: N/A; Control Interface: 3-Wire Serial SPI; Mounting Technology: Surface Mount; Code_JEDEC: MO-187; ComponentLink1Description: Manufacturer URL; ComponentLink1URL: http://www.maximintegrated.com/; ComponentLink2Description: Datasheet; ComponentLink2URL: http://datasheets.maximintegrated.com/en/ds/MAX5436-MAX5439.pdf; ComponentLink3Description: Package Specification; ComponentLink3URL: http://pdfserv.maximintegrated.com/package_dwgs/21-0061.PDF
footprint MAXM-U10CN-1_N (SOP, 10-Leads, Body 3x3mm, Pitch 0.5mm, IPC Medium Density)
footprint MAXM-U10CN-1_L (SOP, 10-Leads, Body 3x3mm, Pitch 0.5mm, IPC High Density)
footprint MAXM-U10CN-1_M (SOP, 10-Leads, Body 3x3mm, Pitch 0.5mm, IPC Low Density)
pins: 1 SCLK (in) "Serial Clock Input", 2 DIN (in) "Serial Data Input", 3 ~{CS} (in) "Chip Select", 4 GND (power) "Analog and Digital Ground", 5 VSS (power) "Negative Analog Supply. Bypass with a 0.1uF capacitor to GND.", 6 VDD (power) "Positive Analog Supply. Bypass with a 0.1uF capacitor to GND.", 7 H "High Terminal of Resistor", 8 W "Wiper Terminal of Resistor", 9 L "Low Terminal of Resistor", 10 VCC (power) "Digital Supply. Bypass with a 0.1uF capacitor to GND."

## MAX5438EUB+
designator U?
High Voltage +/-15V, Low-Drift Digital Potentiometers with 3-Wire Serial SPI Control Interface, Volatile, Linear Taper, 128 Steps, -40 to 85 degC, 10-pin uMAX (U10CN+1), Pb-Free; PartNumber: MAX5438EUB+; DatasheetVersion: Rev. 3; PackageVersion: Rev. L, 07/2008; PackageReference: U10CN+1; PackageDescription: 10-Pin Micro-MAX, Thin Shrink Small-Outline (U10CN+1), Body 3 x 3 mm, Pitch 0.5 mm; Supplier 1: Digi-Key; Supplier Part Number 1: MAX5438EUB+-ND; Supplier 2: Mouser; Supplier Part Number 2: 700-MAX5438EUB; Control Interface: 3-Wire Serial SPI; Mounting Technology: Surface Mount; Code_JEDEC: MO-187; ComponentLink1Description: Manufacturer URL; ComponentLink1URL: http://www.maximintegrated.com/; ComponentLink2Description: Datasheet; ComponentLink2URL: http://datasheets.maximintegrated.com/en/ds/MAX5436-MAX5439.pdf; ComponentLink3Description: Package Specification; ComponentLink3URL: http://pdfserv.maximintegrated.com/package_dwgs/21-0061.PDF
footprint MAXM-U10CN+1_N (SOP, 10-Leads, Body 3x3mm, Pitch 0.5mm, IPC Medium Density)
footprint MAXM-U10CN+1_L (SOP, 10-Leads, Body 3x3mm, Pitch 0.5mm, IPC High Density)
footprint MAXM-U10CN+1_M (SOP, 10-Leads, Body 3x3mm, Pitch 0.5mm, IPC Low Density)
pins: 1 SCLK (in) "Serial Clock Input", 2 DIN (in) "Serial Data Input", 3 ~{CS} (in) "Chip Select", 4 GND (power) "Analog and Digital Ground", 5 VSS (power) "Negative Analog Supply. Bypass with a 0.1uF capacitor to GND.", 6 VDD (power) "Positive Analog Supply. Bypass with a 0.1uF capacitor to GND.", 7 H "High Terminal of Resistor", 8 W "Wiper Terminal of Resistor", 9 L "Low Terminal of Resistor", 10 VCC (power) "Digital Supply. Bypass with a 0.1uF capacitor to GND."

## MAX5438EUB+T
designator U?
High Voltage +/-15V, Low-Drift Digital Potentiometers with 3-Wire Serial SPI Control Interface, Volatile, Linear Taper, 128 Steps, -40 to 85 degC, 10-pin uMAX (U10CN+1), Pb-Free, Tape and Reel; PartNumber: MAX5438EUB+T; DatasheetVersion: Rev. 3; PackageVersion: Rev. L, 07/2008; PackageReference: U10CN+1; PackageDescription: 10-Pin Micro-MAX, Thin Shrink Small-Outline (U10CN+1), Body 3 x 3 mm, Pitch 0.5 mm; Supplier 1: Digi-Key; Supplier Part Number 1: MAX5438EUB+T-ND; Supplier 2: Mouser; Supplier Part Number 2: 700-MAX5438EUBT; Control Interface: 3-Wire Serial SPI; Mounting Technology: Surface Mount; Code_JEDEC: MO-187; ComponentLink1Description: Manufacturer URL; ComponentLink1URL: http://www.maximintegrated.com/; ComponentLink2Description: Datasheet; ComponentLink2URL: http://datasheets.maximintegrated.com/en/ds/MAX5436-MAX5439.pdf; ComponentLink3Description: Package Specification; ComponentLink3URL: http://pdfserv.maximintegrated.com/package_dwgs/21-0061.PDF
footprint MAXM-U10CN+1_N (SOP, 10-Leads, Body 3x3mm, Pitch 0.5mm, IPC Medium Density)
footprint MAXM-U10CN+1_L (SOP, 10-Leads, Body 3x3mm, Pitch 0.5mm, IPC High Density)
footprint MAXM-U10CN+1_M (SOP, 10-Leads, Body 3x3mm, Pitch 0.5mm, IPC Low Density)
pins: 1 SCLK (in) "Serial Clock Input", 2 DIN (in) "Serial Data Input", 3 ~{CS} (in) "Chip Select", 4 GND (power) "Analog and Digital Ground", 5 VSS (power) "Negative Analog Supply. Bypass with a 0.1uF capacitor to GND.", 6 VDD (power) "Positive Analog Supply. Bypass with a 0.1uF capacitor to GND.", 7 H "High Terminal of Resistor", 8 W "Wiper Terminal of Resistor", 9 L "Low Terminal of Resistor", 10 VCC (power) "Digital Supply. Bypass with a 0.1uF capacitor to GND."

## MAX5438EUB-T
designator U?
High Voltage +/-15V, Low-Drift Digital Potentiometers with 3-Wire Serial SPI Control Interface, Volatile, Linear Taper, 128 Steps, -40 to 85 degC, 10-pin uMAX (U10CN-1), Tape and Reel; PartNumber: MAX5438EUB-T; DatasheetVersion: Rev. 3; PackageVersion: Rev. L, 07/2008; PackageReference: U10CN-1; PackageDescription: 10-Pin Micro-MAX, Thin Shrink Small-Outline (U10CN-1), Body 3 x 3 mm, Pitch 0.5 mm; Supplier 1: Mouser; Supplier Part Number 1: N/A; Control Interface: 3-Wire Serial SPI; Mounting Technology: Surface Mount; Code_JEDEC: MO-187; ComponentLink1Description: Manufacturer URL; ComponentLink1URL: http://www.maximintegrated.com/; ComponentLink2Description: Datasheet; ComponentLink2URL: http://datasheets.maximintegrated.com/en/ds/MAX5436-MAX5439.pdf; ComponentLink3Description: Package Specification; ComponentLink3URL: http://pdfserv.maximintegrated.com/package_dwgs/21-0061.PDF
footprint MAXM-U10CN-1_N (SOP, 10-Leads, Body 3x3mm, Pitch 0.5mm, IPC Medium Density)
footprint MAXM-U10CN-1_L (SOP, 10-Leads, Body 3x3mm, Pitch 0.5mm, IPC High Density)
footprint MAXM-U10CN-1_M (SOP, 10-Leads, Body 3x3mm, Pitch 0.5mm, IPC Low Density)
pins: 1 SCLK (in) "Serial Clock Input", 2 DIN (in) "Serial Data Input", 3 ~{CS} (in) "Chip Select", 4 GND (power) "Analog and Digital Ground", 5 VSS (power) "Negative Analog Supply. Bypass with a 0.1uF capacitor to GND.", 6 VDD (power) "Positive Analog Supply. Bypass with a 0.1uF capacitor to GND.", 7 H "High Terminal of Resistor", 8 W "Wiper Terminal of Resistor", 9 L "Low Terminal of Resistor", 10 VCC (power) "Digital Supply. Bypass with a 0.1uF capacitor to GND."

## MAX5439EUD
designator U?
High Voltage +/-15V, Low-Drift Digital Potentiometers w/Uncommitted Op-Amp with 3-Wire Serial SPI Control Interface, Volatile, Linear Taper, 128 Steps, -40 to 85 degC, 14-pin TSSOP (U14-1); PartNumber: MAX5439EUD; DatasheetVersion: Rev. 3; PackageVersion: Rev. L, 07/2010; PackageReference: U14-1; PackageDescription: 14-Pin Thin Shrink Small-Outline Package (U14-1), Body 5 x 4.4 mm, Pitch 0.65 mm; Supplier 1: Mouser; Supplier Part Number 1: N/A; Control Interface: 3-Wire Serial SPI; Features: On-Chip Uncommitted Op Amp; Mounting Technology: Surface Mount; Code_JEDEC: MO-153; ComponentLink1Description: Manufacturer URL; ComponentLink1URL: http://www.maximintegrated.com/; ComponentLink2Description: Datasheet; ComponentLink2URL: http://datasheets.maximintegrated.com/en/ds/MAX5436-MAX5439.pdf; ComponentLink3Description: Package Specification; ComponentLink3URL: http://pdfserv.maximintegrated.com/package_dwgs/21-0066.PDF
footprint MAXM-U14-1_N (SOP, 14-Leads, Body 5x4.4mm, Pitch 0.65mm, IPC Medium Density)
footprint MAXM-U14-1_L (SOP, 14-Leads, Body 5x4.4mm, Pitch 0.65mm, IPC High Density)
footprint MAXM-U14-1_M (SOP, 14-Leads, Body 5x4.4mm, Pitch 0.65mm, IPC Low Density)
pins: 1 SCLK (in) "Serial Clock Input", 2 DIN (in) "Serial Data Input", 3 ~{CS} (in) "Chip Select", 4 ~{SHDN} (in) "Amplifier Shutdown", 5 GND (power) "Analog and Digital Ground", 6 VSS (power) "Negative Analog Supply. Bypass with a 0.1uF capacitor to GND.", 7 OUT (out) "Amplifier Output", 8 IN- (in) "Amplifier Negative Input", 9 IN+ (in) "Amplifier Positive Input", 10 VDD (power) "Positive Analog Supply. Bypass with a 0.1uF capacitor to GND.", 11 H "High Terminal of Resistor", 12 W "Wiper Terminal of Resistor", 13 L "Low Terminal of Resistor", 14 VCC (power) "Digital Supply. Bypass with a 0.1uF capacitor to GND."

## MAX5439EUD+
designator U?
High Voltage +/-15V, Low-Drift Digital Potentiometers w/Uncommitted Op-Amp with 3-Wire Serial SPI Control Interface, Volatile, Linear Taper, 128 Steps, -40 to 85 degC, 14-pin TSSOP (U14+1), Pb-Free; PartNumber: MAX5439EUD+; DatasheetVersion: Rev. 3; PackageVersion: Rev. L, 07/2010; PackageReference: U14+1; PackageDescription: 14-Pin Thin Shrink Small-Outline Package (U14+1), Body 5 x 4.4 mm, Pitch 0.65 mm; Supplier 1: Digi-Key; Supplier Part Number 1: MAX5439EUD+-ND; Supplier 2: Mouser; Supplier Part Number 2: 700-MAX5439EUD; Control Interface: 3-Wire Serial SPI; Features: On-Chip Uncommitted Op Amp; Mounting Technology: Surface Mount; Code_JEDEC: MO-153; ComponentLink1Description: Manufacturer URL; ComponentLink1URL: http://www.maximintegrated.com/; ComponentLink2Description: Datasheet; ComponentLink2URL: http://datasheets.maximintegrated.com/en/ds/MAX5436-MAX5439.pdf; ComponentLink3Description: Package Specification; ComponentLink3URL: http://pdfserv.maximintegrated.com/package_dwgs/21-0066.PDF
footprint MAXM-U14+1_N (SOP, 14-Leads, Body 5x4.4mm, Pitch 0.65mm, IPC Medium Density)
footprint MAXM-U14+1_L (SOP, 14-Leads, Body 5x4.4mm, Pitch 0.65mm, IPC High Density)
footprint MAXM-U14+1_M (SOP, 14-Leads, Body 5x4.4mm, Pitch 0.65mm, IPC Low Density)
pins: 1 SCLK (in) "Serial Clock Input", 2 DIN (in) "Serial Data Input", 3 ~{CS} (in) "Chip Select", 4 ~{SHDN} (in) "Amplifier Shutdown", 5 GND (power) "Analog and Digital Ground", 6 VSS (power) "Negative Analog Supply. Bypass with a 0.1uF capacitor to GND.", 7 OUT (out) "Amplifier Output", 8 IN- (in) "Amplifier Negative Input", 9 IN+ (in) "Amplifier Positive Input", 10 VDD (power) "Positive Analog Supply. Bypass with a 0.1uF capacitor to GND.", 11 H "High Terminal of Resistor", 12 W "Wiper Terminal of Resistor", 13 L "Low Terminal of Resistor", 14 VCC (power) "Digital Supply. Bypass with a 0.1uF capacitor to GND."

## MAX5439EUD+T
designator U?
High Voltage +/-15V, Low-Drift Digital Potentiometers w/Uncommitted Op-Amp with 3-Wire Serial SPI Control Interface, Volatile, Linear Taper, 128 Steps, -40 to 85 degC, 14-pin TSSOP (U14+1), Pb-Free, Tape and Reel; PartNumber: MAX5439EUD+T; DatasheetVersion: Rev. 3; PackageVersion: Rev. L, 07/2010; PackageReference: U14+1; PackageDescription: 14-Pin Thin Shrink Small-Outline Package (U14+1), Body 5 x 4.4 mm, Pitch 0.65 mm; Supplier 1: Digi-Key; Supplier Part Number 1: MAX5439EUD+T-ND; Supplier 2: Mouser; Supplier Part Number 2: 700-MAX5439EUDT; Control Interface: 3-Wire Serial SPI; Features: On-Chip Uncommitted Op Amp; Mounting Technology: Surface Mount; Code_JEDEC: MO-153; ComponentLink1Description: Manufacturer URL; ComponentLink1URL: http://www.maximintegrated.com/; ComponentLink2Description: Datasheet; ComponentLink2URL: http://datasheets.maximintegrated.com/en/ds/MAX5436-MAX5439.pdf; ComponentLink3Description: Package Specification; ComponentLink3URL: http://pdfserv.maximintegrated.com/package_dwgs/21-0066.PDF
footprint MAXM-U14+1_N (SOP, 14-Leads, Body 5x4.4mm, Pitch 0.65mm, IPC Medium Density)
footprint MAXM-U14+1_L (SOP, 14-Leads, Body 5x4.4mm, Pitch 0.65mm, IPC High Density)
footprint MAXM-U14+1_M (SOP, 14-Leads, Body 5x4.4mm, Pitch 0.65mm, IPC Low Density)
pins: 1 SCLK (in) "Serial Clock Input", 2 DIN (in) "Serial Data Input", 3 ~{CS} (in) "Chip Select", 4 ~{SHDN} (in) "Amplifier Shutdown", 5 GND (power) "Analog and Digital Ground", 6 VSS (power) "Negative Analog Supply. Bypass with a 0.1uF capacitor to GND.", 7 OUT (out) "Amplifier Output", 8 IN- (in) "Amplifier Negative Input", 9 IN+ (in) "Amplifier Positive Input", 10 VDD (power) "Positive Analog Supply. Bypass with a 0.1uF capacitor to GND.", 11 H "High Terminal of Resistor", 12 W "Wiper Terminal of Resistor", 13 L "Low Terminal of Resistor", 14 VCC (power) "Digital Supply. Bypass with a 0.1uF capacitor to GND."

## MAX5439EUD-T
designator U?
High Voltage +/-15V, Low-Drift Digital Potentiometers w/Uncommitted Op-Amp with 3-Wire Serial SPI Control Interface, Volatile, Linear Taper, 128 Steps, -40 to 85 degC, 14-pin TSSOP (U14-1), Tape and Reel; PartNumber: MAX5439EUD-T; DatasheetVersion: Rev. 3; PackageVersion: Rev. L, 07/2010; PackageReference: U14-1; PackageDescription: 14-Pin Thin Shrink Small-Outline Package (U14-1), Body 5 x 4.4 mm, Pitch 0.65 mm; Supplier 1: Mouser; Supplier Part Number 1: N/A; Control Interface: 3-Wire Serial SPI; Features: On-Chip Uncommitted Op Amp; Mounting Technology: Surface Mount; Code_JEDEC: MO-153; ComponentLink1Description: Manufacturer URL; ComponentLink1URL: http://www.maximintegrated.com/; ComponentLink2Description: Datasheet; ComponentLink2URL: http://datasheets.maximintegrated.com/en/ds/MAX5436-MAX5439.pdf; ComponentLink3Description: Package Specification; ComponentLink3URL: http://pdfserv.maximintegrated.com/package_dwgs/21-0066.PDF
footprint MAXM-U14-1_N (SOP, 14-Leads, Body 5x4.4mm, Pitch 0.65mm, IPC Medium Density)
footprint MAXM-U14-1_L (SOP, 14-Leads, Body 5x4.4mm, Pitch 0.65mm, IPC High Density)
footprint MAXM-U14-1_M (SOP, 14-Leads, Body 5x4.4mm, Pitch 0.65mm, IPC Low Density)
pins: 1 SCLK (in) "Serial Clock Input", 2 DIN (in) "Serial Data Input", 3 ~{CS} (in) "Chip Select", 4 ~{SHDN} (in) "Amplifier Shutdown", 5 GND (power) "Analog and Digital Ground", 6 VSS (power) "Negative Analog Supply. Bypass with a 0.1uF capacitor to GND.", 7 OUT (out) "Amplifier Output", 8 IN- (in) "Amplifier Negative Input", 9 IN+ (in) "Amplifier Positive Input", 10 VDD (power) "Positive Analog Supply. Bypass with a 0.1uF capacitor to GND.", 11 H "High Terminal of Resistor", 12 W "Wiper Terminal of Resistor", 13 L "Low Terminal of Resistor", 14 VCC (power) "Digital Supply. Bypass with a 0.1uF capacitor to GND."

## MAX5440EAG+
designator U?
Stereo Volume Control with Rotary Encoder Interface with Rotary Encoder Control Interface, Volatile, Log Taper, 32 Steps, -40 to 85 degC, 20-pin SSOP (A24+1), Pb-Free; PartNumber: MAX5440EAG+; DatasheetVersion: Rev. 2; PackageVersion: Rev. C, 02/2010; PackageReference: A24+1; PackageDescription: 24-Pin Shrink Small-Outline Package (A24+1), Body 8.2 x 5.29 mm, Pitch 0.65 mm; Supplier 1: Digi-Key; Supplier Part Number 1: MAX5440EAG+-ND; Supplier 2: Mouser; Supplier Part Number 2: 700-MAX5440EAG; Applications: Automotive Back-Seat Multimedia, Desktop Speakers ,Multimedia Docking Stations ,Set-Top Boxes ,Stereo Volume Control; Control Interface: Rotary Encoder; Features: Buffered Wiper Outputs, Five-Segment LED Display Driver ,Low THD+N and Crosstalk ,Rotary Encoder Interface ,Zero-Crossing Detector; Mounting Technology: Surface Mount; Code_JEDEC: MO150; ComponentLink1Description: Manufacturer URL; ComponentLink1URL: http://www.maximintegrated.com/; ComponentLink2Description: Datasheet; ComponentLink2URL: http://datasheets.maximintegrated.com/en/ds/MAX5440.pdf; ComponentLink3Description: Package Specification; ComponentLink3URL: http://pdfserv.maximintegrated.com/package_dwgs/21-0056.PDF
footprint MAXM-A24+1_N (SOP, 24-Leads, Body 8.2x5.29mm, Pitch 0.65mm, IPC Medium Density)
footprint MAXM-A24+1_L (SOP, 24-Leads, Body 8.2x5.29mm, Pitch 0.65mm, IPC High Density)
footprint MAXM-A24+1_M (SOP, 24-Leads, Body 8.2x5.29mm, Pitch 0.65mm, IPC Low Density)
pins: 1 VLOGIC (power) "Digital Logic Power Supply. Bypass VLOGIC to ground with a 0.1uF capacitor as close to the device as possible.", 2 ~{RENCODEB} (in) "Rotary Encoder Input B. With R\E\N\C\O\D\E\A\, this input provides the rotary encoder control for the potentiometer (see Figure 1). R\E\N\C\O\D\E\B\ is internally pulled up to VLOGIC with a 45k ohm resistor.", 3 ~{RENCODEA} (in) "Rotary Encoder Input A. With R\E\N\C\O\D\E\B\, this input provides the rotary encoder control for the potentiometer (see Figure 1). R\E\N\C\O\D\E\A\ is internally pulled up to VLOGIC with a 45k ohm resistor.", 4 ~{MUTE} (in) "Mute Input. Pull M\U\T\E\ low to toggle the wiper between the mute setting (see Table 1) and the current setting. M\U\T\E\ is pulled up to VLOGIC with an internal 45k ohm resistor.", 5 ~{MODE} (in) "Volume/Balance Control Input. Each high-to-low transition on M\O\D\E\ toggles between the volume and balance modes. M\O\D\E\ is pulled high internally with a 45k ohm resistor to VLOGIC. On power-up, the MAX5440 is in (See Datasheet)", 6 ~{SHDN} (in) "Active-Low Shutdown Input. Drive S\H\D\N\ low to place the device in shutdown mode. In shutdown mode, the MAX5440 stores the last wipers settings. The wipers move to the L_ end of the resistor string. Terminating shutdown (See Datasheet)", 7 GND (power) "Ground. Connect pins 7 and 24 together.", 8 H0 "Potentiometer 0 High Terminal. H0 and L0 terminals can be reversed.", 9 L0 "Potentiometer 0 Low Terminal. L0 and H0 terminals can be reversed.", 10 W0 "Potentiometer 0 Wiper Buffered Output", 11 MIDBIAS (power) "Midbias Voltage Output. VMIDBIAS = (VDD + VSS) / 2.", 12 BIAS "Bias Generator Input. Bypass with a 1uF capacitor to system ground.", 13 VDD (power) "Analog Power Supply. Bypass VDD to ground with a 0.1uF capacitor as close to the device as possible.", 14 VSS (power) "Negative Power Supply. Bypass VSS to ground with a 0.1uF capacitor as close to the device as possible. Connect to GND for single-supply operation.", 15 W1 "Potentiometer 1 Wiper Buffered Output", 16 L1 "Potentiometer 1 Low Terminal. L1 and H1 terminals can be reversed.", 17 H1 "Potentiometer 1 High Terminal. H1 and L1 terminals can be reversed.", 18 LEDIND0 (oc) "LED Indicator Open-Drain Output 0 through LED Indicator Open-Drain Output 4. LEDIND 0-LEDIND 4 form a bar graph indication of the current volume or balance. In volume mode, all LEDs off indicates mute and all LEDs on (See Datasheet)", 19 LEDIND1 (oc) "LED Indicator Open-Drain Output 0 through LED Indicator Open-Drain Output 4. LEDIND 0-LEDIND 4 form a bar graph indication of the current volume or balance. In volume mode, all LEDs off indicates mute and all LEDs on (See Datasheet)", 20 LEDIND2 (oc) "LED Indicator Open-Drain Output 0 through LED Indicator Open-Drain Output 4. LEDIND 0-LEDIND 4 form a bar graph indication of the current volume or balance. In volume mode, all LEDs off indicates mute and all LEDs on (See Datasheet)", 21 LEDIND3 (oc) "LED Indicator Open-Drain Output 0 through LED Indicator Open-Drain Output 4. LEDIND 0-LEDIND 4 form a bar graph indication of the current volume or balance. In volume mode, all LEDs off indicates mute and all LEDs on (See Datasheet)", 22 LEDIND4 (oc) "LED Indicator Open-Drain Output 0 through LED Indicator Open-Drain Output 4. LEDIND 0-LEDIND 4 form a bar graph indication of the current volume or balance. In volume mode, all LEDs off indicates mute and all LEDs on (See Datasheet)", 23 ~{MODEIND} (oc) "Volume-Control/Balance-Control Mode Indicator Open-Drain Output. Connect to an LED through a resistor to VLOGIC. When the LED is on, the MAX5440 is in balance-control mode. When the LED is off, the MAX5440 is in (See Datasheet)", 24 GND (power) "Ground. Connect pins 7 and 24 together."